# Altium schematic symbol library Sensors.SchLib: 25 symbols
Pins are listed as number, name and electrical type; pins without a type are passive.

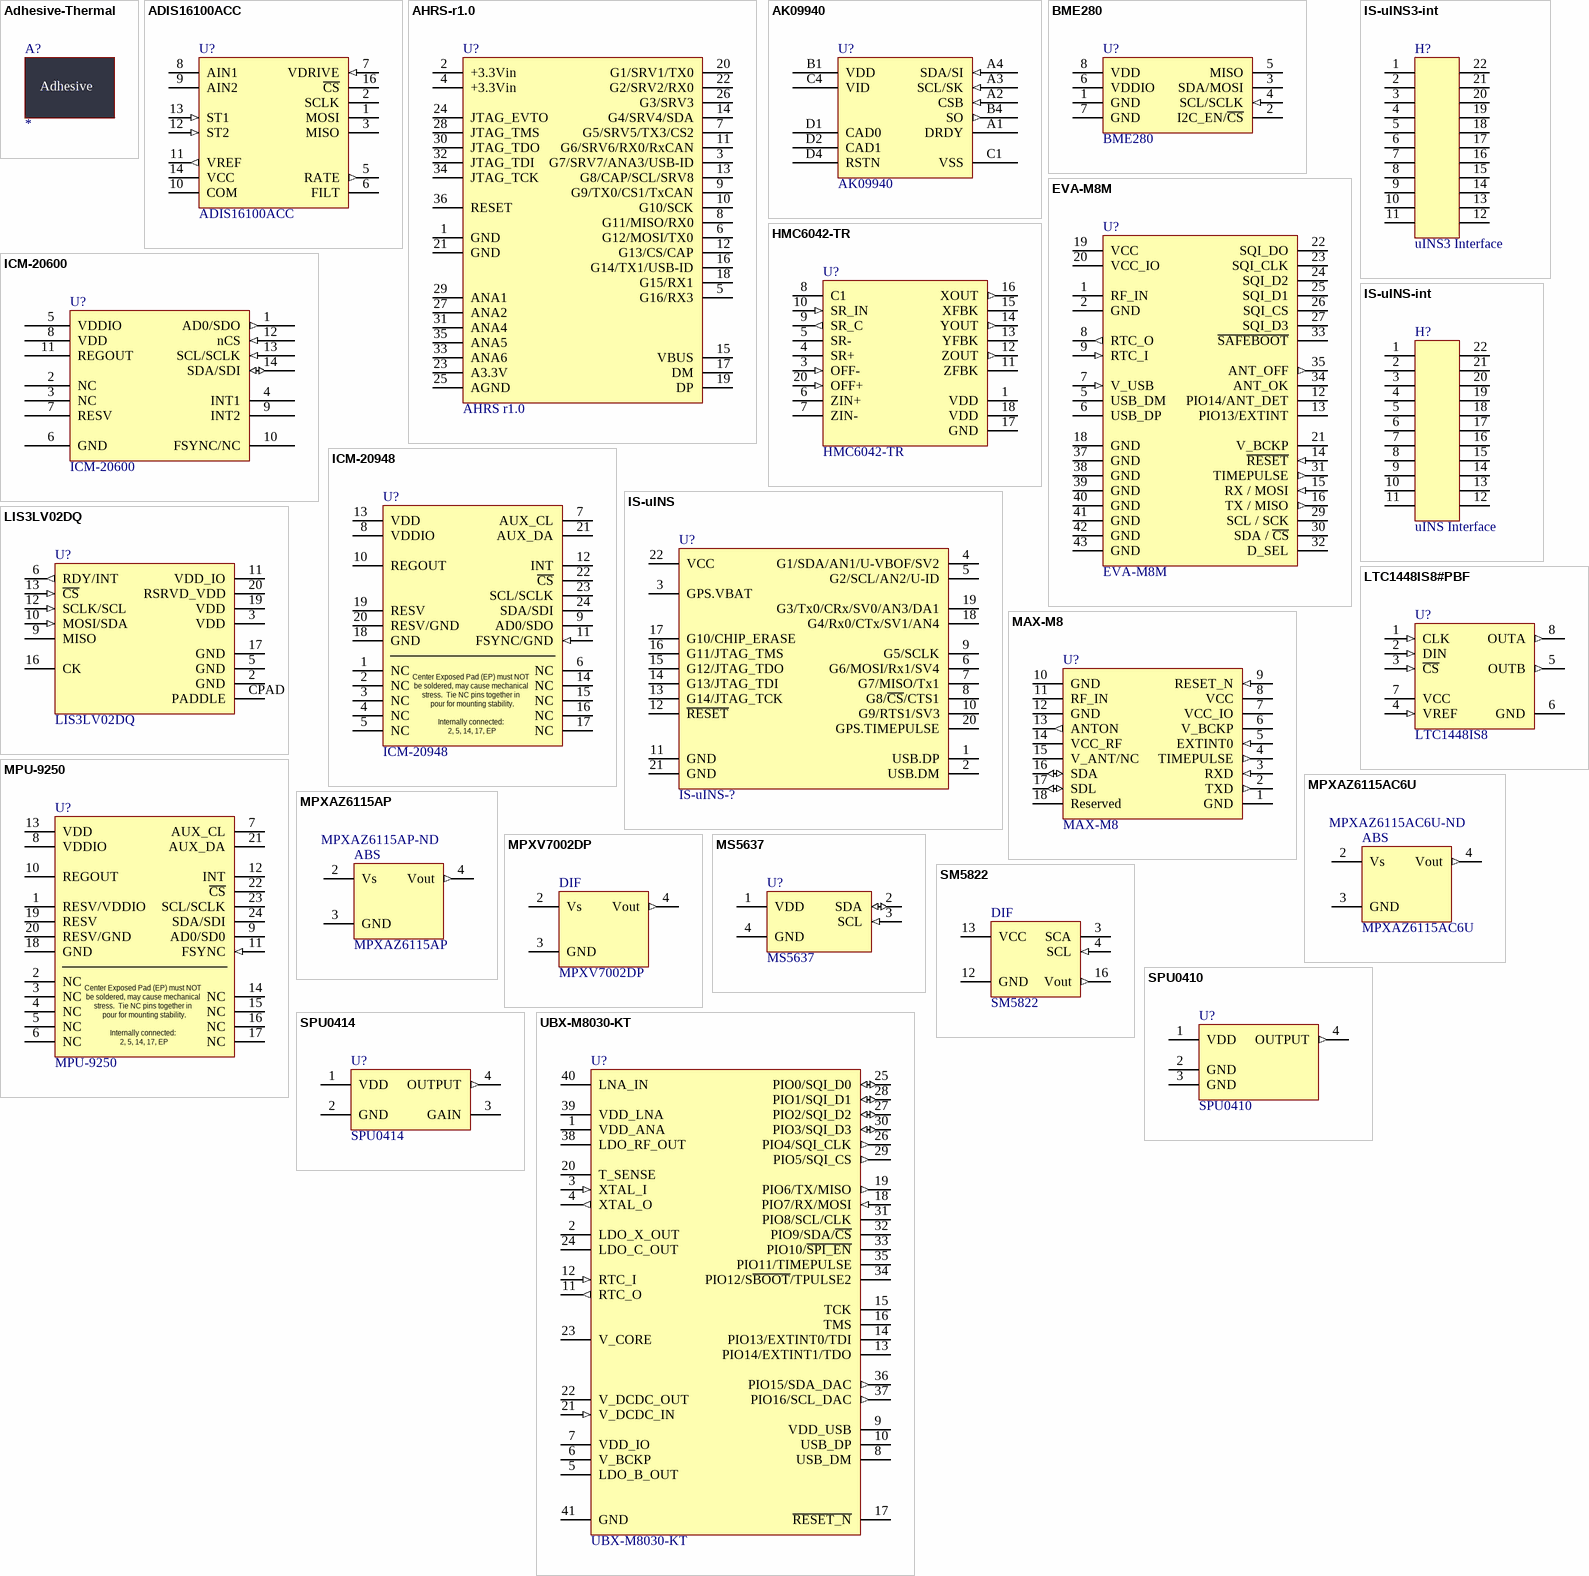
[diagram p0: symbols Adhesive-Thermal to UBX-M8030-KT]

## Adhesive-Thermal
designator A?, comment Adhesive  (value not drawn)
Heat Cure Epoxy Polymer; Manufacturer 1: *; Supplier Part Number 1: *; Supplier 1: *; Manufacturer Part Number 1: *
footprint UINS-2.2-IP_Protector (Inerial Sense Miniature INS IP Protector)
footprint UINS-2.1-IP_Protector (Inerial Sense Miniature INS IP Protector)
footprint UINS-3.0-IP_Protector (Inerial Sense Miniature INS IP Protector)
footprint UINS-3.1-IP_Protector (Inerial Sense Miniature INS IP Protector)

## ADIS16100ACC
designator U?
300 deg/s SPI gyro; Manufacturer: Analog Devices Inc; Range °/s: ±300°/s; Sensitivity: 0.2439°/sec/LSB; Typical Bandwidth (kHz): 4kHz; Voltage - Supply: 4.75 V ~ 5.25 V; Current - Supply: 7mA; Supplier 1: Analog Devices; Supplier Part Number 1: ADIS16100ACC; Manufacturer Part Number: ADIS16100ACC; RoHS: RoHS non-compliant; Category: Sensors Transducers; Stock 1: 88; Pricing 1: 1=49.75, 25=43.75, 100=40.9 (USD); Output Type: SPI; Operating Temperature: -40°C ~ 85°C; Package / Case: 16-LGA; ComponentLink1URL: http://www.analog.com/static/imported-files/Data_Sheets/ADIS16100.pdf; ComponentLink1Description: http://www.analog.com/static/imported-files/Data_Sheets/ADIS16100.pdf; Supplier 2: Digi-Key; Supplier Part Number 2: ADIS16100ACC-ND
footprint LGA 8x8 mm
pins: 1 MOSI, 2 SCLK, 3 MISO, 5 RATE (out), 6 FILT, 7 VDRIVE (in), 8 AIN1, 9 AIN2, 10 COM (power), 11 VREF (out), 12 ST2 (in), 13 ST1 (in), 14 VCC (power), 16 ~{CS}

## AHRS-r1.0
designator U?, comment AHRS r1.0
footprint AHRS_r1.0
pins: 1 GND (power), 2 +3.3Vin (power), 3 G7/SRV7/ANA3/USB-ID, 4 +3.3Vin (power), 5 G16/RX3, 6 G12/MOSI/TX0, 7 G5/SRV5/TX3/CS2, 8 G11/MISO/RX0, 9 G9/TX0/CS1/TxCAN, 10 G10/SCK, 11 G6/SRV6/RX0/RxCAN, 12 G13/CS/CAP, 13 G8/CAP/SCL/SRV8, 14 G4/SRV4/SDA, 15 VBUS, 16 G14/TX1/USB-ID, 17 DM, 18 G15/RX1, 19 DP, 20 G1/SRV1/TX0, 21 GND (power), 22 G2/SRV2/RX0, 23 A3.3V (power), 24 JTAG_EVTO, 25 AGND (power), 26 G3/SRV3, 27 ANA2, 28 JTAG_TMS, 29 ANA1, 30 JTAG_TDO, 31 ANA4, 32 JTAG_TDI, 33 ANA6, 34 JTAG_TCK, 35 ANA5, 36 RESET

## AK09940
designator U?
Ultrahigh precision 3-axis Magnetometer
footprint BGA11C40P4X4_160X160X60 (BGA, 11-Leads, Body 1.60x1.60mmx0.60mm, Pitch 0.40mm)
pins: A1 DRDY, A2 CSB (in), A3 SCL/SK (in), A4 SDA/SI (in), B1 VDD (power), B4 SO (out), C1 VSS (power), C4 VID (power), D1 CAD0, D2 CAD1, D4 RSTN

## BME280
designator U?
BAROMETRIC PRESSURE HUMIDITY SENSOR; Manufacturer: Bosch Sensortec; Supplier 1: Mouser; Manufacturer Part Number: BME280; RoHS: RoHS Compliant; Category: Sensors, Transducers; Stock 1: 2183; Pricing 1: 1=5.66, 50=5.63, 100=5.59, 500=5.05, 1000=4.83, 2500=4.43, 5000=4.27 (USD); ComponentLink1URL: https://ae-bst.resource.bosch.com/media/_tech/media/datasheets/BST-BME280_DS001-11.pdf; ComponentLink1Description: https://ae-bst.resource.bosch.com/media/_tech/media/datasheets/BST-BME280_DS001-11.pdf; Supplier Part Number 1: 262-BME280
footprint BME280 (Bosch Pressure Humidity Sensor)
pins: 1 GND (power), 2 I2C_EN/~{CS}, 3 SDA/MOSI, 4 SCL/SCLK (in), 5 MISO, 6 VDDIO (power), 7 GND (power), 8 VDD (power)

## EVA-M8M
designator U?
ublox M8 Concurrent GNSS module; Manufacturer Part Number: EVA-M8M-0; Voltage - Supply: 1.65 V ~ 3.6 V; Current - Supply: 21mA; Output Type: UART, SPI, I2C; Supplier 1: ublox; Supplier Part Number 1: EVA-M8M-0; Manufacturer: ublox; RoHS: RoHS compliant; Category: GPS receiver; Pricing 1: 1=79.00, 10=45.34, 50=27.23, 100=17.67, 250=12.05 (USD); Operating Temperature: -40°C ~ 85°C; Package / Case: 36 pin
footprint PQFN65P700X700X116_HS-37N (PQFN, 36-Leads, Body 7.00x7.00mm, Pitch 0.65mm, Thermal Pad 4.00x2.20mm, IPC Medium Density)
pins: 1 RF_IN, 2 GND (power), 5 USB_DM, 6 USB_DP, 7 V_USB (in), 8 RTC_O (out), 9 RTC_I (in), 12 PIO14/ANT_DET, 13 PIO13/EXTINT, 14 ~{RESET} (in), 15 RX / MOSI (in), 16 TX / MISO (out), 18 GND (power), 19 VCC (power), 20 VCC_IO, 21 V_BCKP, 22 SQI_DO, 23 SQI_CLK, 24 SQI_D2, 25 SQI_D1, 26 SQI_CS, 27 SQI_D3, 29 SCL / SCK, 30 SDA / ~{CS}, 31 TIMEPULSE (out), 32 D_SEL, 33 ~{SAFEBOOT}, 34 ANT_OK, 35 ANT_OFF (out), 37 GND (power), 38 GND (power), 39 GND (power), 40 GND (power), 41 GND (power), 42 GND (power), 43 GND (power)

## HMC6042-TR
designator U?
2-AXIS MAG SENSOR CIRCUIT LPCC; Manufacturer: Honeywell Microelectronics & Precision Sensors; Supplier 1: Digi-Key; Supplier Part Number 1: 342-1055-1-ND; Manufacturer Part Number: HMC6042-TR; RoHS: RoHS Compliant; Category: Sensors Transducers; Stock 1: 2457; Pricing 1: 1=26.56, 25=8.50, 100=7.4375, 500=6.375 (USD); ComponentLink1URL: http://www.honeywell.com/sites/servlet/com.merx.npoint.servlets.DocumentServlet?docid=D6DFF41B2-EB82-8437-91D3-16A123A03E1A; ComponentLink1Description: http://www.honeywell.com/sites/servlet/com.merx.npoint.servlets.DocumentServlet?docid=D6DFF41B2-EB82-8437-91D3-16A123A03E1A
footprint LPCC20 (Honeywell Mag)
pins: 1 VDD (power), 3 OFF- (in), 4 SR+, 5 SR-, 6 ZIN+, 7 ZIN-, 8 C1, 9 SR_C (out), 10 SR_IN (in), 11 ZFBK, 12 ZOUT (out), 13 YFBK, 14 YOUT (out), 15 XFBK, 16 XOUT (out), 17 GND (power), 18 VDD (power), 20 OFF+ (in)

## ICM-20600
designator U?
6DOF Gyro and Accel
footprint QFN50P300X250X97-14N (QFN, 14-Leads, Body 3.00x2.50mm, Pitch 0.50mm, IPC Medium Density)
pins: 1 AD0/SDO (out), 2 NC, 3 NC, 4 INT1, 5 VDDIO (power), 6 GND (power), 7 RESV, 8 VDD (power), 9 INT2, 10 FSYNC/NC, 11 REGOUT (power), 12 nCS (in), 13 SCL/SCLK (in), 14 SDA/SDI (io)

## ICM-20948
designator U?
GYRO/ACCEL/COMPASS/9-AXIS
footprint QFN40P300X300X105 (QFN, 24-Leads, Body 3.00x3.00mm, Pitch 0.40mm, IPC High Density)
pins: 1 NC, 2 NC, 3 NC, 4 NC, 5 NC, 6 NC, 7 AUX_CL, 8 VDDIO (power), 9 AD0/SDO, 10 REGOUT, 11 FSYNC/GND (in), 12 INT (oc), 13 VDD (power), 14 NC, 15 NC, 16 NC, 17 NC, 18 GND (power), 19 RESV, 20 RESV/GND, 21 AUX_DA, 22 ~{CS}, 23 SCL/SCLK, 24 SDA/SDI
text: Center Exposed Pad (EP) must NOT / be soldered, may cause mechanical / stress.  Tie NC pins together in / pour for mounting stability. / Internally connected: / 2, 5, 14, 17, EP

## IS-uINS
designator U?, comment Manufacturer Part Number: IS-uINS-?  (hidden comment: uINS)
Inetial Sense uINS; Manufacturer: Inertial Sense
footprint UINS-TB-22_1.27p (Inerial Sense Miniature INS Testbed, 22pins 1.27mm pitch)
footprint UINS-TB-22_1.27p_B (Inerial Sense Miniature INS Testbed, 22pins 1.27mm pitch)
pins: 1 USB.DP, 2 USB.DM, 3 GPS.VBAT, 4 G1/SDA/AN1/U-VBOF/SV2, 5 G2/SCL/AN2/U-ID, 6 G6/MOSI/Rx1/SV4, 7 G7/MISO/Tx1, 8 G8/~{CS}/CTS1, 9 G5/SCLK, 10 G9/RTS1/SV3, 11 GND (power), 12 ~{RESET}, 13 G14/JTAG_TCK, 14 G13/JTAG_TDI, 15 G12/JTAG_TDO, 16 G11/JTAG_TMS, 17 G10/CHIP_ERASE, 18 G4/Rx0/CTx/SV1/AN4, 19 G3/Tx0/CRx/SV0/AN3/DA1, 20 GPS.TIMEPULSE, 21 GND (power), 22 VCC (power)

## IS-uINS3-int
designator H?, comment uINS3 Interface  (no BOM)
Inetial Sense uINS3 interface
footprint uINS3-Int-22-1.27p (uINS Interface, 22 pins 1.27mm pitch)
pins: 1 (power), 2 (power), 3 (power), 4 (power), 5 (power), 6 (power), 7 (power), 8 (power), 9 (power), 10 (power), 11 (power), 12 (power), 13 (power), 14 (power), 15 (power), 16 (power), 17 (power), 18 (power), 19 (power), 20 (power), 21 (power), 22 (power)

## IS-uINS-int
designator H?, comment uINS Interface  (no BOM)
Inetial Sense uINS interface
footprint uINS-Int-22-1.27p (uINS Interface, 22 pins 1.27mm pitch)
pins: 1, 2, 3, 4, 5, 6, 7, 8, 9, 10, 11, 12, 13, 14, 15, 16, 17, 18, 19, 20, 21, 22

## LIS3LV02DQ
designator U?
3 Axis Accelerometer; Manufacturer: STMicroelectronics; Manufacturer Part Number: LIS3LV02DQ-TR; Acceleration Range: ±2g, 6g; Axis: Three; Voltage Rating: 2.16V ~ 3.6V; Interface: I&sup2;C, SPI; Supplier 1: Digi-Key; Supplier Part Number 1: 497-6346-1-ND; RoHS: RoHS Compliant; Category: Sensors Transducers; Stock 1: 2471; Pricing 1: 1=15.37, 10=14.84, 100=11.66, 250=10.60, 500=9.275, 1000=7.42 (USD); Sensitivity: *; Features: High Shock Survivability; Package / Case: 28-QFPN; ComponentLink1URL: http://www.st.com/stonline/products/literature/ds/11115/lis3lv02dq.pdf; ComponentLink1Description: http://www.st.com/stonline/products/literature/ds/11115/lis3lv02dq.pdf
footprint QFPN28
pins: 2 GND (power), 3 VDD (power), 5 GND (power), 6 RDY/INT (out), 9 MISO, 10 MOSI/SDA (in), 11 VDD_IO (power), 12 SCLK/SCL (in), 13 ~{CS} (in), 16 CK, 17 GND (power), 19 VDD (power), 20 RSRVD_VDD (power), CPAD PADDLE

## LTC1448IS8#PBF
designator U?, comment LTC1448IS8
IC D/A CONV 12BIT R-R DUAL 8SOIC; Manufacturer: Linear Technology; Manufacturer Part Number: LTC1448IS8#PBF; Settling Time: 14µs; Number of Bits: 12; Data Interface: Serial; Number of Converters: 2; Voltage Supply Source: Single; Power Dissipation (Max): 2.5mW; Number of Outputs and Type: 2 Voltage, Unipolar; Supplier 1: Digi-Key; Supplier Part Number 1: LTC1448IS8#PBF-ND; RoHS: RoHS Compliant; Category: Integrated Circuits (ICs); Stock 1: 195; Pricing 1: 1=13.63, 25=9.10, 100=7.45 (USD); Operating Temperature: -40°C ~ 85°C; Package / Case: 8-SOIC (3.9mm Width); Packaging: Tube; ComponentLink1URL: http://www.linear.com/pc/downloadDocument.do?navId=H0,C1,C1155,C1005,C1156,P1217,D3168; ComponentLink1Description: http://www.linear.com/pc/downloadDocument.do?navId=H0,C1,C1155,C1005,C1156,P1217,D3168
pins: 1 CLK (in), 2 DIN (in), 3 ~{CS} (in), 4 VREF (in), 5 OUTB (out), 6 GND (power), 7 VCC (power), 8 OUTA (out)

## MAX-M8
designator U?
ublox M8 Concurrent GNSS module; Manufacturer Part Number: MAX-M8Q; Voltage - Supply: 3.0 V ~ 3.6 V; Current - Supply: 21mA; Output Type: SPI; Supplier 1: ublox; Supplier Part Number 1: MAX-M8Q; Manufacturer: ublox; RoHS: RoHS non-compliant; Category: GPS receiver; Pricing 1: 1=79.00, 10=45.34, 50=27.23, 100=17.67, 250=12.05 (USD); Operating Temperature: -40°C ~ 85°C; Package / Case: 18 pin
footprint MAX-M8 (ulbox M8 concurrent GNSS module)
pins: 1 GND (power), 2 TXD (out), 3 RXD (in), 4 TIMEPULSE (out), 5 EXTINT0 (in), 6 V_BCKP, 7 VCC_IO, 8 VCC (power), 9 RESET_N (in), 10 GND (power), 11 RF_IN, 12 GND (power), 13 ANTON (out), 14 VCC_RF, 15 V_ANT/NC, 16 SDA (io), 17 SDL (io), 18 Reserved

## MPU-9250
designator U?
GYRO/ACCEL/COMPASS/9-AXIS
footprint QFN40P300X300X105 (QFN, 24-Leads, Body 3.00x3.00mm, Pitch 0.40mm, IPC High Density)
pins: 1 RESV/VDDIO, 2 NC, 3 NC, 4 NC, 5 NC, 6 NC, 7 AUX_CL, 8 VDDIO (power), 9 AD0/SD0, 10 REGOUT, 11 FSYNC (in), 12 INT (oc), 13 VDD (power), 14 NC, 15 NC, 16 NC, 17 NC, 18 GND (power), 19 RESV, 20 RESV/GND, 21 AUX_DA, 22 ~{CS}, 23 SCL/SCLK, 24 SDA/SDI
text: Center Exposed Pad (EP) must NOT / be soldered, may cause mechanical / stress.  Tie NC pins together in / pour for mounting stability. / Internally connected: / 2, 5, 14, 17, EP

## MPXAZ6115AC6U
designator ABS  Supplier Part Number 1: MPXAZ6115AC6U-ND
Absolute Pressure Sensor, 15 to 115 kPa; Manufacturer: Freescale Semiconductor; Operating Pressure: 2.2 ~ 16.7 PSI; Port Size: Male, 1/8" (3.175mm) Tube; Output: 0 ~ 4.8V; Voltage - Supply: 4.75 V ~ 5.25 V; Supplier 1: Digi-Key; Manufacturer Part Number: MPXAZ6115AC6U; RoHS: RoHS Compliant; Category: Sensors, Transducers; Stock 1: 115; Pricing 1: 1=14.9, 10=14.076, 25=13.248, 100=8.28 (USD); Pressure Type: Absolute; Accuracy: -; Termination Style: PCB; Operating Temperature: -40°C ~ 125°C; Package / Case: 8-SMD, Top Port; Factory Setting: -; ComponentLink1URL: http://cache.freescale.com/files/sensors/doc/data_sheet/MPXA6115A.pdf?fpsp=1&WT_TYPE=Data%20Sheets&WT_VENDOR=FREESCALE&WT_FILE_FORMAT=pdf; ComponentLink1Description: http://cache.freescale.com/files/sensors/doc/data_sheet/MPXA6115A.pdf?fpsp=1&WT_TYPE=Data%20Sheets&WT_VENDOR=FREESCALE&WT_FILE_FORMAT=pdf
footprint SSOP08-B (Single Port Pressure Sensor)
pins: 2 Vs (power), 3 GND (power), 4 Vout (out)

## MPXAZ6115AP
designator ABS  Supplier Part Number 1: MPXAZ6115AP-ND
Absolute Pressure Sensor, 15 to 115 kPa; Manufacturer: Freescale Semiconductor; Operating Pressure: 2.2 ~ 16.7 PSI; Port Size: Male, 0.13" (3.302mm) Tube; Output: 0 ~ 4.8V; Voltage - Supply: 4.75 V ~ 5.25 V; Supplier 1: Digi-Key; Manufacturer Part Number: MPXAZ6115AP; RoHS: RoHS Compliant; Category: Sensors, Transducers; Stock 1: 266; Pricing 1: 1=14.47, 10=13.668, 25=12.864, 100=8.04 (USD); Pressure Type: Absolute; Accuracy: -; Termination Style: PCB; Operating Temperature: -40°C ~ 125°C; Package / Case: 8-SMD, Side Port; Factory Setting: -; ComponentLink1URL: http://cache.freescale.com/files/sensors/doc/data_sheet/MPXA6115A.pdf?fpsp=1&WT_TYPE=Data%20Sheets&WT_VENDOR=FREESCALE&WT_FILE_FORMAT=pdf; ComponentLink1Description: http://cache.freescale.com/files/sensors/doc/data_sheet/MPXA6115A.pdf?fpsp=1&WT_TYPE=Data%20Sheets&WT_VENDOR=FREESCALE&WT_FILE_FORMAT=pdf
footprint SOP254P1750X990-8L-ABS (SOP, 8-Leads, Body 12.3x12.3mm (max), Pitch 2.54mm, IPC High Density)
pins: 2 Vs (power), 3 GND (power), 4 Vout (out)

## MPXV7002DP
designator DIF
Differential Pressure Sensor, -2 to 2 kPa; Manufacturer Part Number: MPXV7002DP
footprint SOP254P1750X990-8L (SOP, 8-Leads, Body 12.3x12.3mm (max), Pitch 2.54mm, IPC High Density)
pins: 2 Vs (power), 3 GND (power), 4 Vout (out)

## MS5637
designator U?
BAROMETRIC PRESSURE SENSOR; Manufacturer: Measurement Specialties Inc.; Manufacturer Part Number: MS5637-02BA03-50; Supplier 1: Digi-Key; RoHS: RoHS Compliant; Category: Sensors, Transducers; Stock 1: 2183; Pricing 1: 1=5.05, 10=3.935, 25=3.1928, 50=2.8216, 100=2.7473, 250=2.52452, 500=2.30176, 750=2.22751, 1000=2.15325 (USD); ComponentLink1URL: http://www.meas-spec.com/downloads/MS5637-02BA03.pdf; ComponentLink1Description: http://www.meas-spec.com/downloads/MS5637-02BA03.pdf; Supplier Part Number 1: 223-1199-1-ND
footprint MS5637 (Barometric Pressure Sensor)
pins: 1 VDD (power), 2 SDA (io), 3 SCL (in), 4 GND (power)

## SM5822
designator DIF
Differenatial Pressure Sensor - Dual Ported; Manufacturer Part Number: 5872-006-D-SB; Manufacturer: Silicon Microstructures; Supplier Part Number 1: 5872-006-S-B; Supplier 1: ServoFlo; Supplier URL 1: http://www.servoflo.com
footprint SM58XX
pins: 3 SCA, 4 SCL (in), 12 GND (power), 13 VCC (power), 16 Vout (out)

## SPU0410
designator U?
MIC MEMS ANALOG OMNI -42DB; Manufacturer: Knowles; Manufacturer Part Number: SPU0410HR5H-PB; Direction: Omnidirectional; Frequency Range: 100Hz ~ 10kHz; Sensitivity: -42dB ±3dB @ 94dB SPL; S/N Ratio: 59dB; Impedance: 300 Ohm; Voltage - Rated: 1.5 ~ 3.6V; Current - Supply: 250µA; Port Location: Top; Seal Rating: None; Shape: Rectangular; Supplier 1: Digi-Key; RoHS: RoHS Compliant; Category: Audio Products; Stock 1: 5004; Pricing 1: 1=1.68, 10=1.451, 25=1.1664, 50=1.0368, 100=0.9071, 250=0.8812, 500=0.8553 (USD); Packaging: Cut Tape (CT); Type: MEMS (Silicon); Output Type: Analog; Termination: Surface Mount; Size / Dimension: 3.76mm L x 2.95mm W; Height (Max): 1.20mm; ComponentLink1URL: http://media.digikey.com/pdf/Data%20Sheets/Knowles%20Acoustics%20PDFs/SPU0410HR5H-PB.pdf; ComponentLink1Description: http://media.digikey.com/pdf/Data%20Sheets/Knowles%20Acoustics%20PDFs/SPU0410HR5H-PB.pdf; Supplier Part Number 1: 423-1138-1-ND
footprint SPUxxxx (MEMs Microphone - 3.76mm x 2.95mm x 1.20mm)
pins: 1 VDD (power), 2 GND (power), 3 GND (power), 4 OUTPUT (out)

## SPU0414
designator U?
MIC MEMS ANALOG OMNI -22DB; Manufacturer: Knowles; Manufacturer Part Number: SPU0414HR5H-SB; Direction: Omnidirectional; Frequency Range: 100Hz ~ 10kHz; Sensitivity: -22dB ±3dB @ 94dB SPL; S/N Ratio: 59dB; Impedance: 400 Ohm; Voltage - Rated: 1.5 ~ 3.6V; Current - Supply: 220µA; Port Location: Top; Seal Rating: None; Shape: Rectangular; Supplier 1: Digi-Key; RoHS: RoHS Compliant; Category: Audio Products; Stock 1: 15318; Pricing 1: 1=1.86, 10=1.622, 25=1.2616, 50=1.1416, 100=1.0214, 250=0.99136, 500=0.96132 (USD); Packaging: Cut Tape (CT); Type: MEMS (Silicon); Output Type: Analog; Termination: Surface Mount; Size / Dimension: 3.76mm L x 2.95mm W; Height (Max): 1.20mm; ComponentLink1URL: http://www.knowles.com/eng/content/download/4304/58695/version/7/file/Design_Guide.pdf; ComponentLink1Description: http://www.knowles.com/eng/content/download/4304/58695/version/7/file/Design_Guide.pdf; Supplier Part Number 1: 423-1134-1-ND
footprint SPUxxxx (MEMs Microphone - 3.76mm x 2.95mm x 1.20mm)
pins: 1 VDD (power), 2 GND (power), 3 GAIN, 4 OUTPUT (out)

## UBX-M8030-KT
designator U?
ublox M8 Concurrent GNSS module; Voltage - Supply: 1.65 V ~ 3.6 V; Current - Supply: 25mA @ 3.0V; Output Type: UART, SPI, I2C; Supplier 1: ublox; Supplier Part Number 1: UBX-M8030-KT; Manufacturer: ublox; Manufacturer Part Number: UBX-M8030-KT; RoHS: RoHS compliant; Category: GNSS receiver; Operating Temperature: -40°C ~ 85°C; Package / Case: 36 pin
footprint QFN40P500X500X60_HS-41N (QFN, 40-Leads, Body 5.00x5.00mm, Pitch 0.40mm, Thermal Pad 3.70x3.70mm, IPC Medium Density)
pins: 1 VDD_ANA, 2 LDO_X_OUT, 3 XTAL_I (in), 4 XTAL_O (out), 5 LDO_B_OUT, 6 V_BCKP, 7 VDD_IO (power), 8 USB_DM, 9 VDD_USB, 10 USB_DP, 11 RTC_O (out), 12 RTC_I (in), 13 PIO14/EXTINT1/TDO, 14 PIO13/EXTINT0/TDI, 15 TCK, 16 TMS, 17 ~{RESET_N}, 18 PIO7/RX/MOSI (in), 19 PIO6/TX/MISO (out), 20 T_SENSE, 21 V_DCDC_IN (in), 22 V_DCDC_OUT (power), 23 V_CORE, 24 LDO_C_OUT, 25 PIO0/SQI_D0 (io), 26 PIO4/SQI_CLK (out), 27 PIO2/SQI_D2 (io), 28 PIO1/SQI_D1 (io), 29 PIO5/SQI_CS (out), 30 PIO3/SQI_D3 (io), 31 PIO8/SCL/CLK, 32 PIO9/SDA/~{CS}, 33 PIO10/~{SPI_EN}, 34 PIO12/S~{BOOT}/TPULSE2, 35 PIO11/TIMEPULSE, 36 PIO15/SDA_DAC (out), 37 PIO16/SCL_DAC (out), 38 LDO_RF_OUT, 39 VDD_LNA, 40 LNA_IN, 41 GND (power)

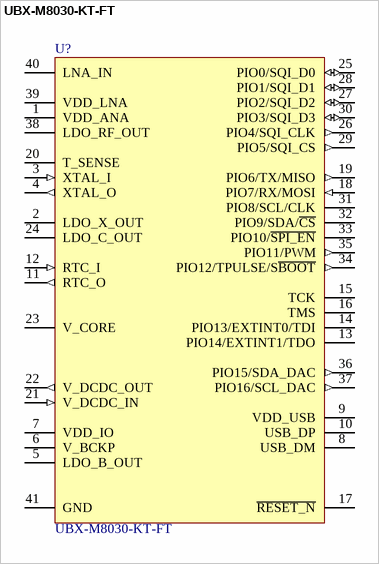
[diagram p1: symbol UBX-M8030-KT-FT]

## UBX-M8030-KT-FT
designator U?
ublox M8 Concurrent GNSS module; Voltage - Supply: 1.65 V ~ 3.6 V; Current - Supply: 25mA @ 3.0V; Output Type: UART, SPI, I2C; Supplier 1: ublox; Supplier Part Number 1: UBX-M8030-KT-FT; Manufacturer: ublox; Manufacturer Part Number: UBX-M8030-KT-FT; RoHS: RoHS compliant; Category: GNSS receiver; Operating Temperature: -40°C ~ 85°C; Package / Case: 36 pin
footprint QFN40P500X500X60_HS-41N (QFN, 40-Leads, Body 5.00x5.00mm, Pitch 0.40mm, Thermal Pad 3.70x3.70mm, IPC Medium Density)
pins: 1 VDD_ANA, 2 LDO_X_OUT, 3 XTAL_I (in), 4 XTAL_O (out), 5 LDO_B_OUT, 6 V_BCKP, 7 VDD_IO (power), 8 USB_DM, 9 VDD_USB, 10 USB_DP, 11 RTC_O (out), 12 RTC_I (in), 13 PIO14/EXTINT1/TDO, 14 PIO13/EXTINT0/TDI, 15 TCK, 16 TMS, 17 ~{RESET_N}, 18 PIO7/RX/MOSI (in), 19 PIO6/TX/MISO (out), 20 T_SENSE, 21 V_DCDC_IN (in), 22 V_DCDC_OUT (out), 23 V_CORE, 24 LDO_C_OUT, 25 PIO0/SQI_D0 (io), 26 PIO4/SQI_CLK (out), 27 PIO2/SQI_D2 (io), 28 PIO1/SQI_D1 (io), 29 PIO5/SQI_CS (out), 30 PIO3/SQI_D3 (io), 31 PIO8/SCL/CLK, 32 PIO9/SDA/~{CS}, 33 PIO10/~{SPI_EN}, 34 PIO12/TPULSE/S~{BOOT} (out), 35 PIO11/PWM (out), 36 PIO15/SDA_DAC (out), 37 PIO16/SCL_DAC (out), 38 LDO_RF_OUT, 39 VDD_LNA, 40 LNA_IN, 41 GND (power)